# Altium schematic symbol library planar_coil.SchLib: 1 symbol
Pins are listed as number, name and electrical type; pins without a type are passive.

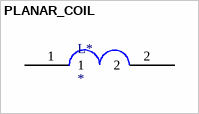
[diagram p0: symbol PLANAR_COIL]

## PLANAR_COIL
designator L*  (net tie, no BOM)
footprint PLANAR_COIL (Footprint not found)
pins: 1, 2